# Altium integrated library Analog Devices Switches and Multiplexers Multiplexers (Muxes).IntLib: 481 symbols (part 6 of 23)
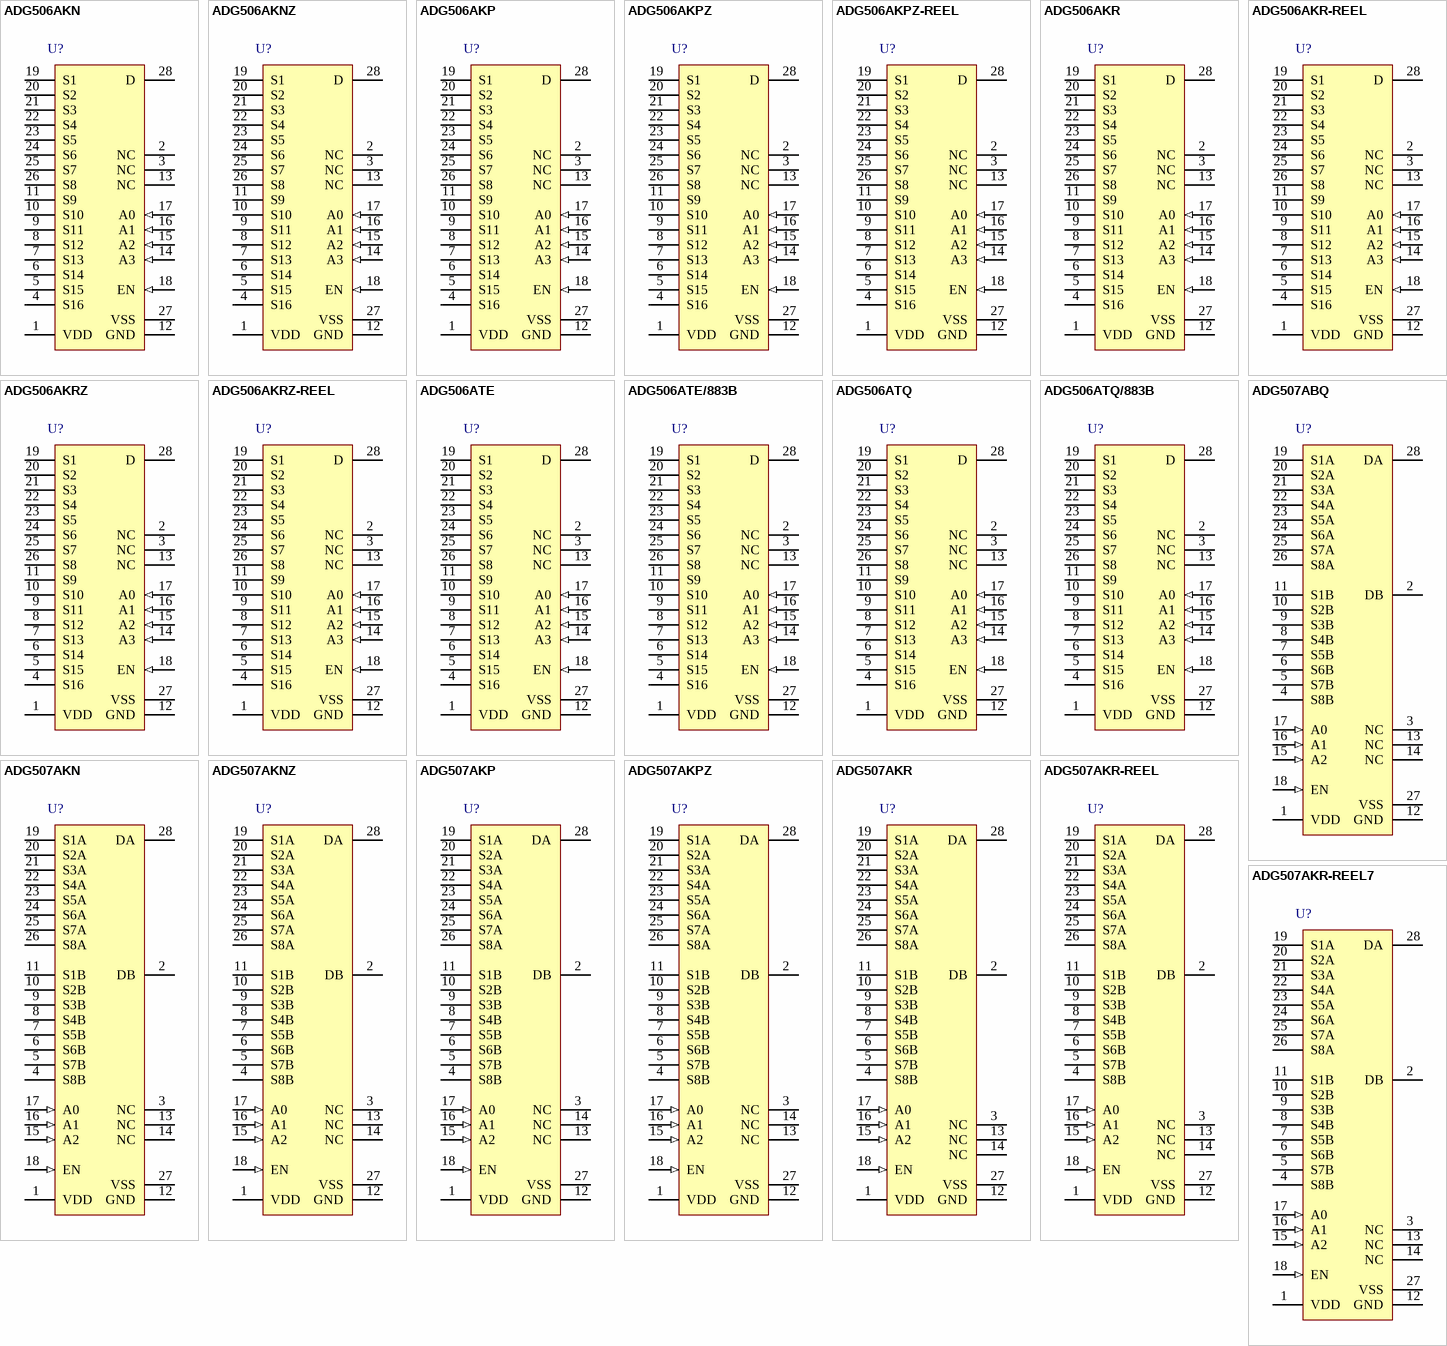
[diagram p22: symbols ADG506AKN to ADG507AKR-REEL7]

## ADG506AKRZ-REEL
designator U?
CMOS 16-Channel Analog Multiplexer, 280 Ohm / 500 Ohm Ron, 28-pin SOIC (RW-28), Reel; Manufacturer: Analog Devices; PartNumber: ADG506AKRZ-REEL; Max Analog Signal Range: Vss to Vdd; Ron (ohms): 280; t transition (s): 200n; DatasheetVersion: Rev. C; PackageVersion: 060706-A, 06/2006; PackageReference: RW-28; PackageDescription: 28-Pin Standard Small Outline Package, Body 17.9 x 7.5 mm, Pitch 1.27 mm; Supplier 1: Digi-Key; Supplier Part Number 1: ADG506AKRZ-REELTR-ND; Supplier 2: Digi-Key; Supplier Part Number 2: ADG506AKRZ-REELCT-ND; Supplier 3: Digi-Key; Supplier Part Number 3: ADG506AKRZ-REELDKR-ND; Supplier 4: Mouser; Supplier Part Number 4: 584-ADG506AKRZ-R; Packing: Reel; Mounting Technology: Surface Mount; Code_JEDEC: MS-013-AE; ComponentLink1Description: Manufacturer URL; ComponentLink1URL: http://www.analog.com/en/index.html; ComponentLink2Description: Datasheet; ComponentLink2URL: http://www.analog.com/static/imported-files/data_sheets/ADG506A_507A.pdf; ComponentLink3Description: Package Specification; ComponentLink3URL: http://www.analog.com/static/imported-files/packages/35833120341221RW_28.pdf
footprint ADI-RW-28_N (SOIC, 28-Leads, Body 17.9x7.5mm, Pitch 1.27mm, IPC Medium Density)
footprint ADI-RW-28_L (SOIC, 28-Leads, Body 17.9x7.5mm, Pitch 1.27mm, IPC High Density)
footprint ADI-RW-28_M (SOIC, 28-Leads, Body 17.9x7.5mm, Pitch 1.27mm, IPC Low Density)
pins: 1 VDD (power), 2 NC, 3 NC, 4 S16, 5 S15, 6 S14, 7 S13, 8 S12, 9 S11, 10 S10, 11 S9, 12 GND (power), 13 NC, 14 A3 (in), 15 A2 (in), 16 A1 (in), 17 A0 (in), 18 EN (in), 19 S1, 20 S2, 21 S3, 22 S4, 23 S5, 24 S6, 25 S7, 26 S8, 27 VSS (power), 28 D

## ADG506ATE
designator U?
CMOS 16-Channel Analog Multiplexer, 280 Ohm / 500 Ohm Ron, 28-pin LCC (E-28-1), Tube; Manufacturer: Analog Devices; PartNumber: ADG506ATE; Max Analog Signal Range: Vss to Vdd; Ron (ohms): 280; t transition (s): 200n; DatasheetVersion: Rev. C; PackageVersion: 022106-A, 02/2006; PackageReference: E-28-1; PackageDescription: 28-Terminal Ceramic Leadless Chip Carrier, Body 11.43 x 11.43 mm, Pitch 1.27 mm; Supplier 1: Mouser; Supplier Part Number 1: N/A; Packing: Tube; Mounting Technology: Surface Mount; ComponentLink1Description: Manufacturer URL; ComponentLink1URL: http://www.analog.com/en/index.html; ComponentLink2Description: Datasheet; ComponentLink2URL: http://www.analog.com/static/imported-files/data_sheets/ADG506A_507A.pdf; ComponentLink3Description: Package Specification; ComponentLink3URL: http://www.analog.com/static/imported-files/packages/PKG_PDF/LCC(E)/E_28_1.pdf
footprint ADI-E-28-1_N (LCC, 28-Leads, Body 11.43x11.43mm, Pitch 1.27mm, IPC Medium Density)
footprint ADI-E-28-1_L (LCC, 28-Leads, Body 11.43x11.43mm, Pitch 1.27mm, IPC High Density)
footprint ADI-E-28-1_M (LCC, 28-Leads, Body 11.43x11.43mm, Pitch 1.27mm, IPC Low Density)
pins: 1 VDD (power), 2 NC, 3 NC, 4 S16, 5 S15, 6 S14, 7 S13, 8 S12, 9 S11, 10 S10, 11 S9, 12 GND (power), 13 NC, 14 A3 (in), 15 A2 (in), 16 A1 (in), 17 A0 (in), 18 EN (in), 19 S1, 20 S2, 21 S3, 22 S4, 23 S5, 24 S6, 25 S7, 26 S8, 27 VSS (power), 28 D

## ADG506ATE/883B
designator U?
CMOS 16-Channel Analog Multiplexer, 280 Ohm / 500 Ohm Ron, 28-pin LCC (E-28-1), Tube; Manufacturer: Analog Devices; PartNumber: ADG506ATE/883B; Max Analog Signal Range: Vss to Vdd; Ron (ohms): 280; t transition (s): 200n; DatasheetVersion: Rev. C; PackageVersion: 022106-A, 02/2006; PackageReference: E-28-1; PackageDescription: 28-Terminal Ceramic Leadless Chip Carrier, Body 11.43 x 11.43 mm, Pitch 1.27 mm; Supplier 1: Mouser; Supplier Part Number 1: 584-ADG506ATE883B; Packing: Tube; Mounting Technology: Surface Mount; ComponentLink1Description: Manufacturer URL; ComponentLink1URL: http://www.analog.com/en/index.html; ComponentLink2Description: Datasheet; ComponentLink2URL: http://www.analog.com/static/imported-files/data_sheets/ADG506A_507A.pdf; ComponentLink3Description: Package Specification; ComponentLink3URL: http://www.analog.com/static/imported-files/packages/PKG_PDF/LCC(E)/E_28_1.pdf
footprint ADI-E-28-1_N (LCC, 28-Leads, Body 11.43x11.43mm, Pitch 1.27mm, IPC Medium Density)
footprint ADI-E-28-1_L (LCC, 28-Leads, Body 11.43x11.43mm, Pitch 1.27mm, IPC High Density)
footprint ADI-E-28-1_M (LCC, 28-Leads, Body 11.43x11.43mm, Pitch 1.27mm, IPC Low Density)
pins: 1 VDD (power), 2 NC, 3 NC, 4 S16, 5 S15, 6 S14, 7 S13, 8 S12, 9 S11, 10 S10, 11 S9, 12 GND (power), 13 NC, 14 A3 (in), 15 A2 (in), 16 A1 (in), 17 A0 (in), 18 EN (in), 19 S1, 20 S2, 21 S3, 22 S4, 23 S5, 24 S6, 25 S7, 26 S8, 27 VSS (power), 28 D

## ADG506ATQ
designator U?
CMOS 16-Channel Analog Multiplexer, 280 Ohm / 500 Ohm Ron, 28-pin DIP (Q-28-2), Tube; Manufacturer: Analog Devices; PartNumber: ADG506ATQ; Max Analog Signal Range: Vss to Vdd; Ron (ohms): 280; t transition (s): 200n; DatasheetVersion: Rev. C; PackageVersion: 030106-A, 03/2006; PackageReference: Q-28-2; PackageDescription: 28-Pin Ceramic Dual In-Line Package, Row spacing 15.24 mm, Pitch 2.54 mm; Supplier 1: Digi-Key; Supplier Part Number 1: ADG506ATQ-ND; Supplier 2: Newark; Supplier Part Number 2: 05F6211; Supplier 3: Mouser; Supplier Part Number 3: 584-ADG506ATQ; Packing: Tube; Mounting Technology: Through Hole; ComponentLink1Description: Manufacturer URL; ComponentLink1URL: http://www.analog.com/en/index.html; ComponentLink2Description: Datasheet; ComponentLink2URL: http://www.analog.com/static/imported-files/data_sheets/ADG506A_507A.pdf; ComponentLink3Description: Package Specification; ComponentLink3URL: http://www.analog.com/static/imported-files/packages/4045339666127361303Q_28_2.pdf
footprint ADI-Q-28-2 (DIP, 28-Leads, Body 37.85x14.1mm, Pitch 2.54mm)
pins: 1 VDD (power), 2 NC "NO CONNECT", 3 NC "NO CONNECT", 4 S16, 5 S15, 6 S14, 7 S13, 8 S12, 9 S11, 10 S10, 11 S9, 12 GND (power), 13 NC "NO CONNECT", 14 A3 (in), 15 A2 (in), 16 A1 (in), 17 A0 (in), 18 EN (in), 19 S1, 20 S2, 21 S3, 22 S4, 23 S5, 24 S6, 25 S7, 26 S8, 27 VSS (power), 28 D

## ADG506ATQ/883B
designator U?
CMOS 16-Channel Analog Multiplexer, 280 Ohm / 500 Ohm Ron, 28-pin DIP (Q-28-2), Tube; Manufacturer: Analog Devices; PartNumber: ADG506ATQ/883B; Max Analog Signal Range: Vss to Vdd; Ron (ohms): 280; t transition (s): 200n; DatasheetVersion: Rev. C; PackageVersion: 030106-A, 03/2006; PackageReference: Q-28-2; PackageDescription: 28-Pin Ceramic Dual In-Line Package, Row spacing 15.24 mm, Pitch 2.54 mm; Supplier 1: Mouser; Supplier Part Number 1: 584-ADG506ATQ883B; Packing: Tube; Mounting Technology: Through Hole; ComponentLink1Description: Manufacturer URL; ComponentLink1URL: http://www.analog.com/en/index.html; ComponentLink2Description: Datasheet; ComponentLink2URL: http://www.analog.com/static/imported-files/data_sheets/ADG506A_507A.pdf; ComponentLink3Description: Package Specification; ComponentLink3URL: http://www.analog.com/static/imported-files/packages/4045339666127361303Q_28_2.pdf
footprint ADI-Q-28-2 (DIP, 28-Leads, Body 37.85x14.1mm, Pitch 2.54mm)
pins: 1 VDD (power), 2 NC "NO CONNECT", 3 NC "NO CONNECT", 4 S16, 5 S15, 6 S14, 7 S13, 8 S12, 9 S11, 10 S10, 11 S9, 12 GND (power), 13 NC "NO CONNECT", 14 A3 (in), 15 A2 (in), 16 A1 (in), 17 A0 (in), 18 EN (in), 19 S1, 20 S2, 21 S3, 22 S4, 23 S5, 24 S6, 25 S7, 26 S8, 27 VSS (power), 28 D

## ADG507ABQ
designator U?
CMOS 8-Channel Analog Multiplexer, 280 Ohm / 500 Ohm Ron, 28-pin DIP (Q-28-2), Tube; Manufacturer: Analog Devices; PartNumber: ADG507ABQ; Max Analog Signal Range: Vss to Vdd; Ron (ohms): 280; t transition (s): 200n; DatasheetVersion: Rev. C; PackageVersion: 030106-A, 03/2006; PackageReference: Q-28-2; PackageDescription: 28-Pin Ceramic Dual In-Line Package, Row spacing 15.24 mm, Pitch 2.54 mm; Supplier 1: Digi-Key; Supplier Part Number 1: ADG507ABQ-ND; Packing: Tube; Mounting Technology: Through Hole; ComponentLink1Description: Manufacturer URL; ComponentLink1URL: http://www.analog.com/en/index.html; ComponentLink2Description: Datasheet; ComponentLink2URL: http://www.analog.com/static/imported-files/data_sheets/ADG506A_507A.pdf; ComponentLink3Description: Package Specification; ComponentLink3URL: http://www.analog.com/static/imported-files/packages/4045339666127361303Q_28_2.pdf
footprint ADI-Q-28-2 (DIP, 28-Leads, Body 37.85x14.1mm, Pitch 2.54mm)
pins: 1 VDD (power) "Most positive voltage supply", 2 DB, 3 NC "No Connected", 4 S8B, 5 S7B, 6 S6B, 7 S5B, 8 S4B, 9 S3B, 10 S2B, 11 S1B, 12 GND (power), 13 NC "No Connected", 14 NC "No Connected", 15 A2 (in), 16 A1 (in), 17 A0 (in), 18 EN (in), 19 S1A, 20 S2A, 21 S3A, 22 S4A, 23 S5A, 24 S6A, 25 S7A, 26 S8A, 27 VSS (power) "Most negative voltage supply", 28 DA

## ADG507AKN
designator U?
CMOS 8-Channel Analog Multiplexer, 280 Ohm / 500 Ohm Ron, 28-pin DIP (N-28-2), Tube; Manufacturer: Analog Devices; PartNumber: ADG507AKN; Max Analog Signal Range: Vss to Vdd; Ron (ohms): 280; t transition (s): 200n; DatasheetVersion: Rev. C; PackageVersion: 071006-A, 07/2006; PackageReference: N-28-2; PackageDescription: 28-Pin Plastic Dual In-Line Package, Row spacing 15.24 mm, Pitch 2.54 mm; Supplier 1: Digi-Key; Supplier Part Number 1: ADG507AKN-ND; Packing: Tube; Mounting Technology: Through Hole; Code_JEDEC: MS-011; ComponentLink1Description: Manufacturer URL; ComponentLink1URL: http://www.analog.com/en/index.html; ComponentLink2Description: Datasheet; ComponentLink2URL: http://www.analog.com/static/imported-files/data_sheets/ADG506A_507A.pdf; ComponentLink3Description: Package Specification; ComponentLink3URL: http://www.analog.com/static/imported-files/packages/50849324123784N_28_2.pdf
footprint ADI-N-28-2 (DIP, 28-Leads, Body 37.4x13.52mm, Pitch 2.54mm)
pins: 1 VDD (power) "Most positive voltage supply", 2 DB, 3 NC "No connect", 4 S8B, 5 S7B, 6 S6B, 7 S5B, 8 S4B, 9 S3B, 10 S2B, 11 S1B, 12 GND (power), 13 NC "No connect", 14 NC "No connect", 15 A2 (in), 16 A1 (in), 17 A0 (in), 18 EN (in), 19 S1A, 20 S2A, 21 S3A, 22 S4A, 23 S5A, 24 S6A, 25 S7A, 26 S8A, 27 VSS (power) "Most negative voltage supply", 28 DA

## ADG507AKNZ
designator U?
CMOS 8-Channel Analog Multiplexer, 280 Ohm Ron, 28-pin DIP (N-28-2), Tube; Manufacturer: Analog Devices; PartNumber: ADG507AKNZ; Max Analog Signal Range: Vss to Vdd; Ron (ohms): 280; t transition (s): 200n; DatasheetVersion: Rev. C; PackageVersion: 071006-A, 07/2006; PackageReference: N-28-2; PackageDescription: 28-Pin Plastic Dual In-Line Package, Row spacing 15.24 mm, Pitch 2.54 mm; Supplier 1: Digi-Key; Supplier Part Number 1: ADG507AKNZ-ND; Supplier 2: Farnell; Supplier Part Number 2: 9604960; Supplier 3: Newark; Supplier Part Number 3: 59K1355; Supplier 4: Mouser; Supplier Part Number 4: 584-ADG507AKNZ; Packing: Tube; Mounting Technology: Through Hole; Code_JEDEC: MS-011; ComponentLink1Description: Manufacturer URL; ComponentLink1URL: http://www.analog.com/en/index.html; ComponentLink2Description: Datasheet; ComponentLink2URL: http://www.analog.com/static/imported-files/data_sheets/ADG506A_507A.pdf; ComponentLink3Description: Package Specification; ComponentLink3URL: http://www.analog.com/static/imported-files/packages/50849324123784N_28_2.pdf
footprint ADI-N-28-2 (DIP, 28-Leads, Body 37.4x13.52mm, Pitch 2.54mm)
pins: 1 VDD (power) "Most positive voltage supply", 2 DB, 3 NC "No connect", 4 S8B, 5 S7B, 6 S6B, 7 S5B, 8 S4B, 9 S3B, 10 S2B, 11 S1B, 12 GND (power), 13 NC "No connect", 14 NC "No connect", 15 A2 (in), 16 A1 (in), 17 A0 (in), 18 EN (in), 19 S1A, 20 S2A, 21 S3A, 22 S4A, 23 S5A, 24 S6A, 25 S7A, 26 S8A, 27 VSS (power) "Most negative voltage supply", 28 DA

## ADG507AKP
designator U?
CMOS 8-Channel Analog Multiplexer, 280 Ohm Ron, 28-pin PLCC (P-28), Tube; Manufacturer: Analog Devices; PartNumber: ADG507AKP; Max Analog Signal Range: Vss to Vdd; Ron (ohms): 280; t transition (s): 200n; DatasheetVersion: Rev. C; PackageVersion: 042508-A, 04/2008; PackageReference: P-28; PackageDescription: 28-Pin Plastic Leaded Chip Carrier, Body 11.51 x 11.51 mm, Pitch 1.27 mm; Supplier 1: Digi-Key; Supplier Part Number 1: ADG507AKP-ND; Supplier 2: Mouser; Supplier Part Number 2: 584-ADG507AKP; Packing: Tube; Mounting Technology: Surface Mount; Code_JEDEC: MO-047-AB; ComponentLink1Description: Manufacturer URL; ComponentLink1URL: http://www.analog.com/en/index.html; ComponentLink2Description: Datasheet; ComponentLink2URL: http://www.analog.com/static/imported-files/data_sheets/ADG506A_507A.pdf; ComponentLink3Description: Package Specification; ComponentLink3URL: http://www.analog.com/static/imported-files/packages/PKG_PDF/PLCC(P)/P_28.pdf
footprint ADI-P-28_N (PLCC, 28-Leads, Body 11.51x11.51mm, Pitch 1.27mm, IPC Medium Density)
footprint ADI-P-28_L (PLCC, 28-Leads, Body 11.51x11.51mm, Pitch 1.27mm, IPC High Density)
footprint ADI-P-28_M (PLCC, 28-Leads, Body 11.51x11.51mm, Pitch 1.27mm, IPC Low Density)
pins: 1 VDD (power), 2 DB, 3 NC, 4 S8B, 5 S7B, 6 S6B, 7 S5B, 8 S4B, 9 S3B, 10 S2B, 11 S1B, 12 GND (power), 13 NC, 14 NC, 15 A2 (in), 16 A1 (in), 17 A0 (in), 18 EN (in), 19 S1A, 20 S2A, 21 S3A, 22 S4A, 23 S5A, 24 S6A, 25 S7A, 26 S8A, 27 VSS (power), 28 DA

## ADG507AKPZ
designator U?
CMOS 8-Channel Analog Multiplexer, 280 Ohm Ron, 28-pin PLCC (P-28), Tube; Manufacturer: Analog Devices; PartNumber: ADG507AKPZ; Max Analog Signal Range: Vss to Vdd; Ron (ohms): 280; t transition (s): 200n; DatasheetVersion: Rev. C; PackageVersion: 042508-A, 04/2008; PackageReference: P-28; PackageDescription: 28-Pin Plastic Leaded Chip Carrier, Body 11.51 x 11.51 mm, Pitch 1.27 mm; Supplier 1: Digi-Key; Supplier Part Number 1: ADG507AKPZ-ND; Supplier 2: Farnell; Supplier Part Number 2: 1438747; Supplier 3: Newark; Supplier Part Number 3: 59K1356; Supplier 4: Mouser; Supplier Part Number 4: 584-ADG507AKPZ; Packing: Tube; Mounting Technology: Surface Mount; Code_JEDEC: MO-047-AB; ComponentLink1Description: Manufacturer URL; ComponentLink1URL: http://www.analog.com/en/index.html; ComponentLink2Description: Datasheet; ComponentLink2URL: http://www.analog.com/static/imported-files/data_sheets/ADG506A_507A.pdf; ComponentLink3Description: Package Specification; ComponentLink3URL: http://www.analog.com/static/imported-files/packages/PKG_PDF/PLCC(P)/P_28.pdf
footprint ADI-P-28_N (PLCC, 28-Leads, Body 11.51x11.51mm, Pitch 1.27mm, IPC Medium Density)
footprint ADI-P-28_L (PLCC, 28-Leads, Body 11.51x11.51mm, Pitch 1.27mm, IPC High Density)
footprint ADI-P-28_M (PLCC, 28-Leads, Body 11.51x11.51mm, Pitch 1.27mm, IPC Low Density)
pins: 1 VDD (power), 2 DB, 3 NC, 4 S8B, 5 S7B, 6 S6B, 7 S5B, 8 S4B, 9 S3B, 10 S2B, 11 S1B, 12 GND (power), 13 NC, 14 NC, 15 A2 (in), 16 A1 (in), 17 A0 (in), 18 EN (in), 19 S1A, 20 S2A, 21 S3A, 22 S4A, 23 S5A, 24 S6A, 25 S7A, 26 S8A, 27 VSS (power), 28 DA

## ADG507AKR
designator U?
CMOS 8-Channel Analog Multiplexer, 280 Ohm Ron, 28-pin SOIC (RW-28), Tube; Manufacturer: Analog Devices; PartNumber: ADG507AKR; Max Analog Signal Range: Vss to Vdd; Ron (ohms): 280; t transition (s): 200n; DatasheetVersion: Rev. C; PackageVersion: 060706-A, 06/2006; PackageReference: RW-28; PackageDescription: 28-Pin Standard Small Outline Package, Body 17.9 x 7.5 mm, Pitch 1.27 mm; Supplier 1: Digi-Key; Supplier Part Number 1: ADG507AKR-ND; Supplier 2: Mouser; Supplier Part Number 2: 584-ADG507AKR; Packing: Tube; Mounting Technology: Surface Mount; Code_JEDEC: MS-013-AE; ComponentLink1Description: Manufacturer URL; ComponentLink1URL: http://www.analog.com/en/index.html; ComponentLink2Description: Datasheet; ComponentLink2URL: http://www.analog.com/static/imported-files/data_sheets/ADG506A_507A.pdf; ComponentLink3Description: Package Specification; ComponentLink3URL: http://www.analog.com/static/imported-files/packages/35833120341221RW_28.pdf
footprint ADI-RW-28_N (SOIC, 28-Leads, Body 17.9x7.5mm, Pitch 1.27mm, IPC Medium Density)
footprint ADI-RW-28_L (SOIC, 28-Leads, Body 17.9x7.5mm, Pitch 1.27mm, IPC High Density)
footprint ADI-RW-28_M (SOIC, 28-Leads, Body 17.9x7.5mm, Pitch 1.27mm, IPC Low Density)
pins: 1 VDD (power), 2 DB, 3 NC, 4 S8B, 5 S7B, 6 S6B, 7 S5B, 8 S4B, 9 S3B, 10 S2B, 11 S1B, 12 GND (power), 13 NC, 14 NC, 15 A2 (in), 16 A1 (in), 17 A0 (in), 18 EN (in), 19 S1A, 20 S2A, 21 S3A, 22 S4A, 23 S5A, 24 S6A, 25 S7A, 26 S8A, 27 VSS (power), 28 DA

## ADG507AKR-REEL
designator U?
CMOS 8-Channel Analog Multiplexer, 280 Ohm Ron, 28-pin SOIC (RW-28), Reel; Manufacturer: Analog Devices; PartNumber: ADG507AKR-REEL; Max Analog Signal Range: Vss to Vdd; Ron (ohms): 280; t transition (s): 200n; DatasheetVersion: Rev. C; PackageVersion: 060706-A, 06/2006; PackageReference: RW-28; PackageDescription: 28-Pin Standard Small Outline Package, Body 17.9 x 7.5 mm, Pitch 1.27 mm; Packing: Reel; Mounting Technology: Surface Mount; Code_JEDEC: MS-013-AE; ComponentLink1Description: Manufacturer URL; ComponentLink1URL: http://www.analog.com/en/index.html; ComponentLink2Description: Datasheet; ComponentLink2URL: http://www.analog.com/static/imported-files/data_sheets/ADG506A_507A.pdf; ComponentLink3Description: Package Specification; ComponentLink3URL: http://www.analog.com/static/imported-files/packages/35833120341221RW_28.pdf
footprint ADI-RW-28_N (SOIC, 28-Leads, Body 17.9x7.5mm, Pitch 1.27mm, IPC Medium Density)
footprint ADI-RW-28_L (SOIC, 28-Leads, Body 17.9x7.5mm, Pitch 1.27mm, IPC High Density)
footprint ADI-RW-28_M (SOIC, 28-Leads, Body 17.9x7.5mm, Pitch 1.27mm, IPC Low Density)
pins: 1 VDD (power), 2 DB, 3 NC, 4 S8B, 5 S7B, 6 S6B, 7 S5B, 8 S4B, 9 S3B, 10 S2B, 11 S1B, 12 GND (power), 13 NC, 14 NC, 15 A2 (in), 16 A1 (in), 17 A0 (in), 18 EN (in), 19 S1A, 20 S2A, 21 S3A, 22 S4A, 23 S5A, 24 S6A, 25 S7A, 26 S8A, 27 VSS (power), 28 DA

## ADG507AKR-REEL7
designator U?
CMOS 8-Channel Analog Multiplexer, 280 Ohm Ron, 28-pin SOIC (RW-28), Reel; Manufacturer: Analog Devices; PartNumber: ADG507AKR-REEL7; Max Analog Signal Range: Vss to Vdd; Ron (ohms): 280; t transition (s): 200n; DatasheetVersion: Rev. C; PackageVersion: 060706-A, 06/2006; PackageReference: RW-28; PackageDescription: 28-Pin Standard Small Outline Package, Body 17.9 x 7.5 mm, Pitch 1.27 mm; Supplier 1: Digi-Key; Supplier Part Number 1: ADG507AKR-REEL7-ND; Supplier 2: Newark; Supplier Part Number 2: 09B7089; Supplier 3: Mouser; Supplier Part Number 3: 584-ADG507AKR-R7; Packing: Reel; Mounting Technology: Surface Mount; Code_JEDEC: MS-013-AE; ComponentLink1Description: Manufacturer URL; ComponentLink1URL: http://www.analog.com/en/index.html; ComponentLink2Description: Datasheet; ComponentLink2URL: http://www.analog.com/static/imported-files/data_sheets/ADG506A_507A.pdf; ComponentLink3Description: Package Specification; ComponentLink3URL: http://www.analog.com/static/imported-files/packages/35833120341221RW_28.pdf
footprint ADI-RW-28_N (SOIC, 28-Leads, Body 17.9x7.5mm, Pitch 1.27mm, IPC Medium Density)
footprint ADI-RW-28_L (SOIC, 28-Leads, Body 17.9x7.5mm, Pitch 1.27mm, IPC High Density)
footprint ADI-RW-28_M (SOIC, 28-Leads, Body 17.9x7.5mm, Pitch 1.27mm, IPC Low Density)
pins: 1 VDD (power), 2 DB, 3 NC, 4 S8B, 5 S7B, 6 S6B, 7 S5B, 8 S4B, 9 S3B, 10 S2B, 11 S1B, 12 GND (power), 13 NC, 14 NC, 15 A2 (in), 16 A1 (in), 17 A0 (in), 18 EN (in), 19 S1A, 20 S2A, 21 S3A, 22 S4A, 23 S5A, 24 S6A, 25 S7A, 26 S8A, 27 VSS (power), 28 DA

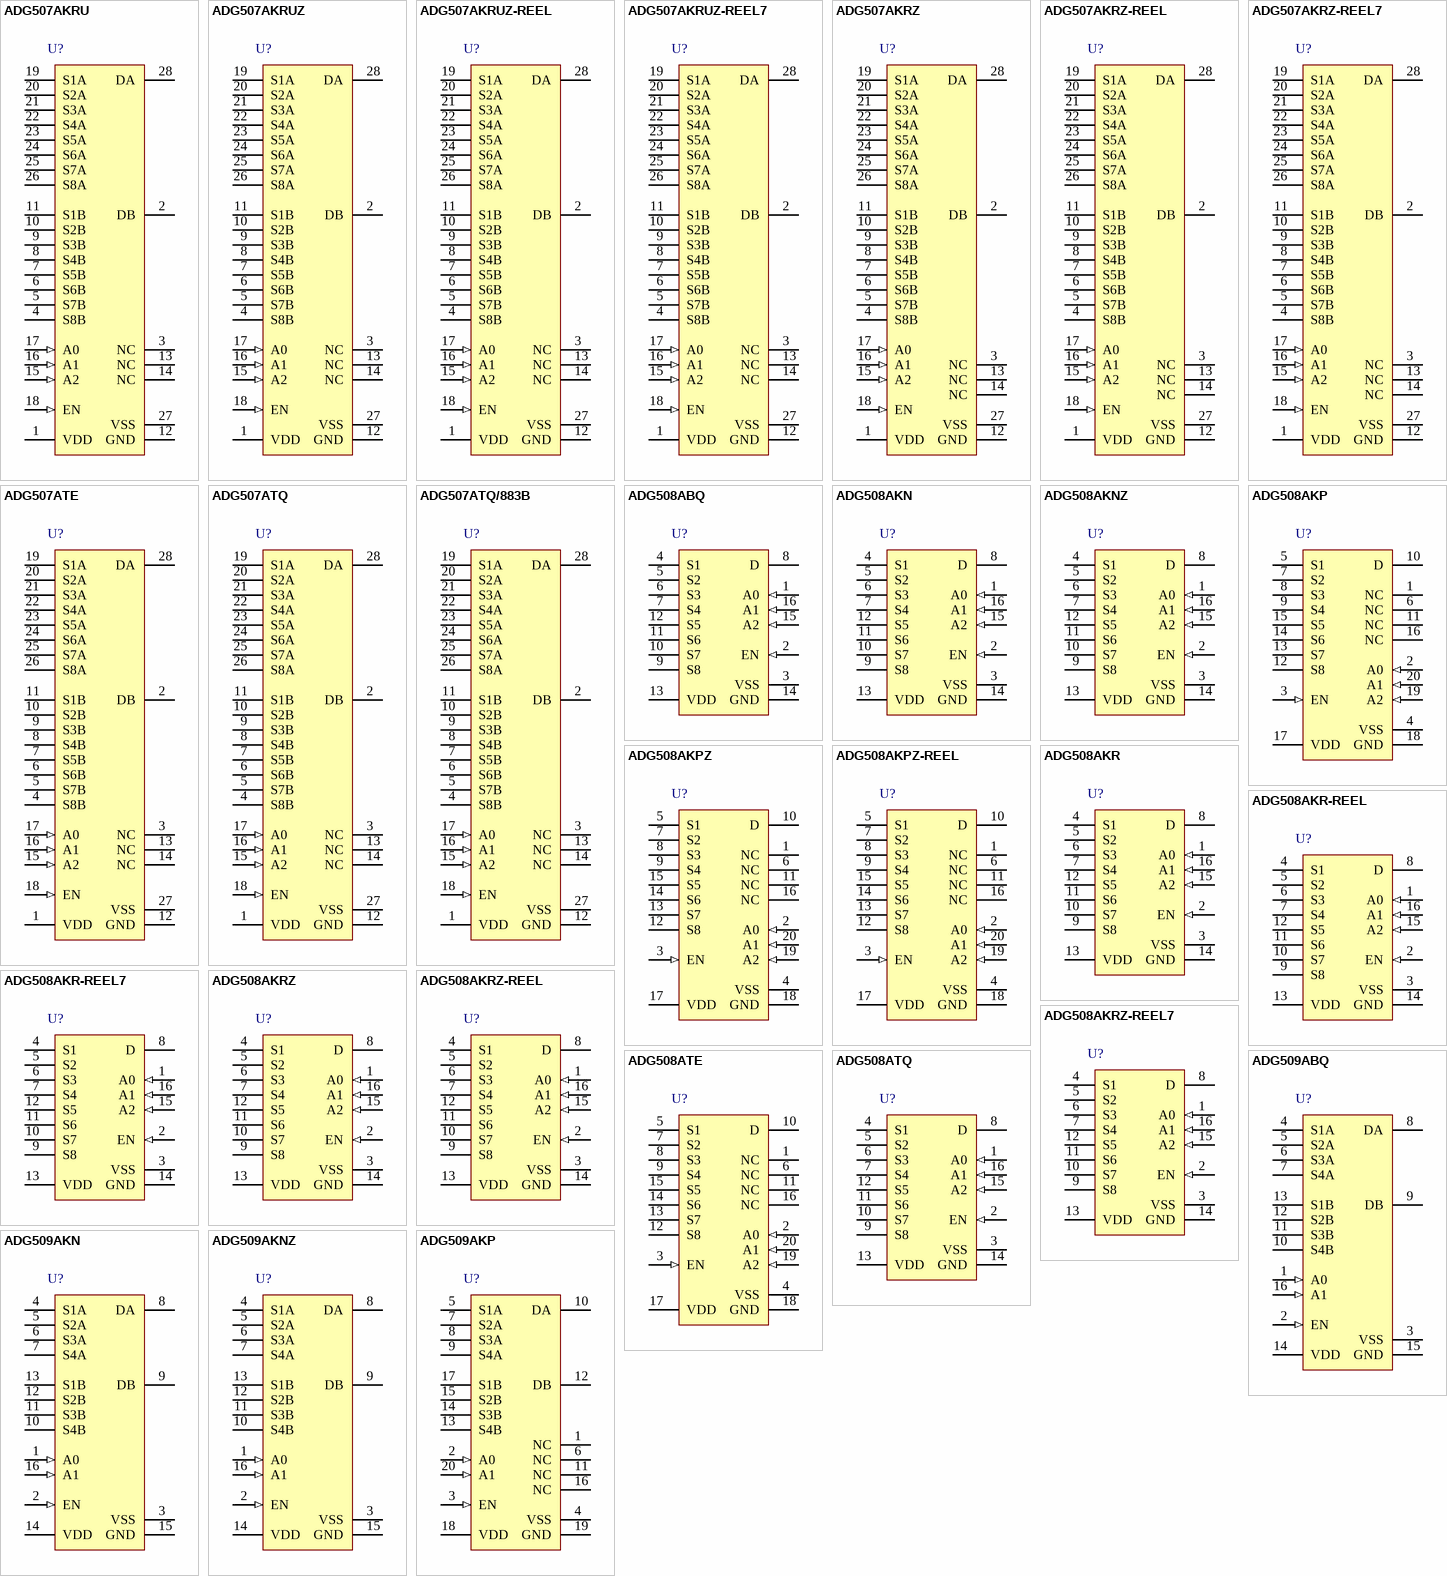
[diagram p5: symbols ADG507AKRU to ADG509AKP]

## ADG507AKRU
designator U?
CMOS 8-Channel Analog Multiplexer, 280 Ohm Ron, 28-pin SOP (RU-28), Tube; Manufacturer: Analog Devices; PartNumber: ADG507AKRU; Max Analog Signal Range: Vss to Vdd; Ron (ohms): 280; t transition (s): 200n; DatasheetVersion: Rev. C; PackageVersion: Mar-05; PackageReference: RU-28; PackageDescription: 28-Pin Thin Shrink Small Outline Package, Body 9.7 x 4.4 mm, Pitch 0.65 mm; Supplier 1: Digi-Key; Supplier Part Number 1: ADG507AKRU-ND; Supplier 2: Mouser; Supplier Part Number 2: 584-ADG507AKRU; Packing: Tube; Mounting Technology: Surface Mount; Code_JEDEC: MO-153-AE; ComponentLink1Description: Manufacturer URL; ComponentLink1URL: http://www.analog.com/en/index.html; ComponentLink2Description: Datasheet; ComponentLink2URL: http://www.analog.com/static/imported-files/data_sheets/ADG506A_507A.pdf; ComponentLink3Description: Package Specification; ComponentLink3URL: http://www.analog.com/static/imported-files/packages/249854663RU_28.pdf
footprint ADI-RU-28_N (SOP, 28-Leads, Body 9.7x4.4mm, Pitch 0.65mm, IPC Medium Density)
footprint ADI-RU-28_L (SOP, 28-Leads, Body 9.7x4.4mm, Pitch 0.65mm, IPC High Density)
footprint ADI-RU-28_M (SOP, 28-Leads, Body 9.7x4.4mm, Pitch 0.65mm, IPC Low Density)
pins: 1 VDD (power) "Most Positive Power Supply Potential", 2 DB, 3 NC "No connect", 4 S8B, 5 S7B, 6 S6B, 7 S5B, 8 S4B, 9 S3B, 10 S2B, 11 S1B, 12 GND (power), 13 NC "No connect", 14 NC "No connect", 15 A2 (in), 16 A1 (in), 17 A0 (in), 18 EN (in), 19 S1A, 20 S2A, 21 S3A, 22 S4A, 23 S5A, 24 S6A, 25 S7A, 26 S8A, 27 VSS (power) "Most Negative Power Supply in a Dual-Supply Application. In single-supply applications, connect to GND.", 28 DA

## ADG507AKRUZ
designator U?
CMOS 8-Channel Analog Multiplexer, 280 Ohm Ron, 28-pin SOP (RU-28), Tube; Manufacturer: Analog Devices; PartNumber: ADG507AKRUZ; Max Analog Signal Range: Vss to Vdd; Ron (ohms): 280; t transition (s): 200n; DatasheetVersion: Rev. C; PackageVersion: Mar-05; PackageReference: RU-28; PackageDescription: 28-Pin Thin Shrink Small Outline Package, Body 9.7 x 4.4 mm, Pitch 0.65 mm; Supplier 1: Digi-Key; Supplier Part Number 1: ADG507AKRUZ-ND; Supplier 2: Newark; Supplier Part Number 2: 59K1357; Supplier 3: Mouser; Supplier Part Number 3: 584-ADG507AKRUZ; Packing: Tube; Mounting Technology: Surface Mount; Code_JEDEC: MO-153-AE; ComponentLink1Description: Manufacturer URL; ComponentLink1URL: http://www.analog.com/en/index.html; ComponentLink2Description: Datasheet; ComponentLink2URL: http://www.analog.com/static/imported-files/data_sheets/ADG506A_507A.pdf; ComponentLink3Description: Package Specification; ComponentLink3URL: http://www.analog.com/static/imported-files/packages/249854663RU_28.pdf
footprint ADI-RU-28_N (SOP, 28-Leads, Body 9.7x4.4mm, Pitch 0.65mm, IPC Medium Density)
footprint ADI-RU-28_L (SOP, 28-Leads, Body 9.7x4.4mm, Pitch 0.65mm, IPC High Density)
footprint ADI-RU-28_M (SOP, 28-Leads, Body 9.7x4.4mm, Pitch 0.65mm, IPC Low Density)
pins: 1 VDD (power) "Most Positive Power Supply Potential", 2 DB, 3 NC "No connect", 4 S8B, 5 S7B, 6 S6B, 7 S5B, 8 S4B, 9 S3B, 10 S2B, 11 S1B, 12 GND (power), 13 NC "No connect", 14 NC "No connect", 15 A2 (in), 16 A1 (in), 17 A0 (in), 18 EN (in), 19 S1A, 20 S2A, 21 S3A, 22 S4A, 23 S5A, 24 S6A, 25 S7A, 26 S8A, 27 VSS (power) "Most Negative Power Supply in a Dual-Supply Application. In single-supply applications, connect to GND.", 28 DA

## ADG507AKRUZ-REEL
designator U?
CMOS 8-Channel Analog Multiplexer, 280 Ohm Ron, 28-pin SOP (RU-28), Reel; Manufacturer: Analog Devices; PartNumber: ADG507AKRUZ-REEL; Max Analog Signal Range: Vss to Vdd; Ron (ohms): 280; t transition (s): 200n; DatasheetVersion: Rev. C; PackageVersion: Mar-05; PackageReference: RU-28; PackageDescription: 28-Pin Thin Shrink Small Outline Package, Body 9.7 x 4.4 mm, Pitch 0.65 mm; Supplier 1: Mouser; Supplier Part Number 1: N/A; Packing: Reel; Mounting Technology: Surface Mount; Code_JEDEC: MO-153-AE; ComponentLink1Description: Manufacturer URL; ComponentLink1URL: http://www.analog.com/en/index.html; ComponentLink2Description: Datasheet; ComponentLink2URL: http://www.analog.com/static/imported-files/data_sheets/ADG506A_507A.pdf; ComponentLink3Description: Package Specification; ComponentLink3URL: http://www.analog.com/static/imported-files/packages/249854663RU_28.pdf
footprint ADI-RU-28_N (SOP, 28-Leads, Body 9.7x4.4mm, Pitch 0.65mm, IPC Medium Density)
footprint ADI-RU-28_L (SOP, 28-Leads, Body 9.7x4.4mm, Pitch 0.65mm, IPC High Density)
footprint ADI-RU-28_M (SOP, 28-Leads, Body 9.7x4.4mm, Pitch 0.65mm, IPC Low Density)
pins: 1 VDD (power) "Most Positive Power Supply Potential", 2 DB, 3 NC "No connect", 4 S8B, 5 S7B, 6 S6B, 7 S5B, 8 S4B, 9 S3B, 10 S2B, 11 S1B, 12 GND (power), 13 NC "No connect", 14 NC "No connect", 15 A2 (in), 16 A1 (in), 17 A0 (in), 18 EN (in), 19 S1A, 20 S2A, 21 S3A, 22 S4A, 23 S5A, 24 S6A, 25 S7A, 26 S8A, 27 VSS (power) "Most Negative Power Supply in a Dual-Supply Application. In single-supply applications, connect to GND.", 28 DA

## ADG507AKRUZ-REEL7
designator U?
CMOS 8-Channel Analog Multiplexer, 280 Ohm Ron, 28-pin SOP (RU-28), Reel; Manufacturer: Analog Devices; PartNumber: ADG507AKRUZ-REEL7; Max Analog Signal Range: Vss to Vdd; Ron (ohms): 280; t transition (s): 200n; DatasheetVersion: Rev. C; PackageVersion: Mar-05; PackageReference: RU-28; PackageDescription: 28-Pin Thin Shrink Small Outline Package, Body 9.7 x 4.4 mm, Pitch 0.65 mm; Supplier 1: Mouser; Supplier Part Number 1: N/A; Packing: Reel; Mounting Technology: Surface Mount; Code_JEDEC: MO-153-AE; ComponentLink1Description: Manufacturer URL; ComponentLink1URL: http://www.analog.com/en/index.html; ComponentLink2Description: Datasheet; ComponentLink2URL: http://www.analog.com/static/imported-files/data_sheets/ADG506A_507A.pdf; ComponentLink3Description: Package Specification; ComponentLink3URL: http://www.analog.com/static/imported-files/packages/249854663RU_28.pdf
footprint ADI-RU-28_N (SOP, 28-Leads, Body 9.7x4.4mm, Pitch 0.65mm, IPC Medium Density)
footprint ADI-RU-28_L (SOP, 28-Leads, Body 9.7x4.4mm, Pitch 0.65mm, IPC High Density)
footprint ADI-RU-28_M (SOP, 28-Leads, Body 9.7x4.4mm, Pitch 0.65mm, IPC Low Density)
pins: 1 VDD (power) "Most Positive Power Supply Potential", 2 DB, 3 NC "No connect", 4 S8B, 5 S7B, 6 S6B, 7 S5B, 8 S4B, 9 S3B, 10 S2B, 11 S1B, 12 GND (power), 13 NC "No connect", 14 NC "No connect", 15 A2 (in), 16 A1 (in), 17 A0 (in), 18 EN (in), 19 S1A, 20 S2A, 21 S3A, 22 S4A, 23 S5A, 24 S6A, 25 S7A, 26 S8A, 27 VSS (power) "Most Negative Power Supply in a Dual-Supply Application. In single-supply applications, connect to GND.", 28 DA

## ADG507AKRZ
designator U?
CMOS 8-Channel Analog Multiplexer, 280 Ohm Ron, 28-pin SOIC (RW-28), Tube; Manufacturer: Analog Devices; PartNumber: ADG507AKRZ; Max Analog Signal Range: Vss to Vdd; Ron (ohms): 280; t transition (s): 200n; DatasheetVersion: Rev. C; PackageVersion: 060706-A, 06/2006; PackageReference: RW-28; PackageDescription: 28-Pin Standard Small Outline Package, Body 17.9 x 7.5 mm, Pitch 1.27 mm; Supplier 1: Digi-Key; Supplier Part Number 1: ADG507AKRZ-ND; Supplier 2: Farnell; Supplier Part Number 2: 1438749; Supplier 3: Newark; Supplier Part Number 3: 59K1358; Supplier 4: Mouser; Supplier Part Number 4: 584-ADG507AKRZ; Packing: Tube; Mounting Technology: Surface Mount; Code_JEDEC: MS-013-AE; ComponentLink1Description: Manufacturer URL; ComponentLink1URL: http://www.analog.com/en/index.html; ComponentLink2Description: Datasheet; ComponentLink2URL: http://www.analog.com/static/imported-files/data_sheets/ADG506A_507A.pdf; ComponentLink3Description: Package Specification; ComponentLink3URL: http://www.analog.com/static/imported-files/packages/35833120341221RW_28.pdf
footprint ADI-RW-28_N (SOIC, 28-Leads, Body 17.9x7.5mm, Pitch 1.27mm, IPC Medium Density)
footprint ADI-RW-28_L (SOIC, 28-Leads, Body 17.9x7.5mm, Pitch 1.27mm, IPC High Density)
footprint ADI-RW-28_M (SOIC, 28-Leads, Body 17.9x7.5mm, Pitch 1.27mm, IPC Low Density)
pins: 1 VDD (power), 2 DB, 3 NC, 4 S8B, 5 S7B, 6 S6B, 7 S5B, 8 S4B, 9 S3B, 10 S2B, 11 S1B, 12 GND (power), 13 NC, 14 NC, 15 A2 (in), 16 A1 (in), 17 A0 (in), 18 EN (in), 19 S1A, 20 S2A, 21 S3A, 22 S4A, 23 S5A, 24 S6A, 25 S7A, 26 S8A, 27 VSS (power), 28 DA

## ADG507AKRZ-REEL
designator U?
CMOS 8-Channel Analog Multiplexer, 280 Ohm Ron, 28-pin SOIC (RW-28), Reel; Manufacturer: Analog Devices; PartNumber: ADG507AKRZ-REEL; Max Analog Signal Range: Vss to Vdd; Ron (ohms): 280; t transition (s): 200n; DatasheetVersion: Rev. C; PackageVersion: 060706-A, 06/2006; PackageReference: RW-28; PackageDescription: 28-Pin Standard Small Outline Package, Body 17.9 x 7.5 mm, Pitch 1.27 mm; Supplier 1: Digi-Key; Supplier Part Number 1: ADG507AKRZ-REEL-ND; Supplier 2: Mouser; Supplier Part Number 2: 584-ADG507AKRZ-R; Packing: Reel; Mounting Technology: Surface Mount; Code_JEDEC: MS-013-AE; ComponentLink1Description: Manufacturer URL; ComponentLink1URL: http://www.analog.com/en/index.html; ComponentLink2Description: Datasheet; ComponentLink2URL: http://www.analog.com/static/imported-files/data_sheets/ADG506A_507A.pdf; ComponentLink3Description: Package Specification; ComponentLink3URL: http://www.analog.com/static/imported-files/packages/35833120341221RW_28.pdf
footprint ADI-RW-28_N (SOIC, 28-Leads, Body 17.9x7.5mm, Pitch 1.27mm, IPC Medium Density)
footprint ADI-RW-28_L (SOIC, 28-Leads, Body 17.9x7.5mm, Pitch 1.27mm, IPC High Density)
footprint ADI-RW-28_M (SOIC, 28-Leads, Body 17.9x7.5mm, Pitch 1.27mm, IPC Low Density)
pins: 1 VDD (power), 2 DB, 3 NC, 4 S8B, 5 S7B, 6 S6B, 7 S5B, 8 S4B, 9 S3B, 10 S2B, 11 S1B, 12 GND (power), 13 NC, 14 NC, 15 A2 (in), 16 A1 (in), 17 A0 (in), 18 EN (in), 19 S1A, 20 S2A, 21 S3A, 22 S4A, 23 S5A, 24 S6A, 25 S7A, 26 S8A, 27 VSS (power), 28 DA

## ADG507AKRZ-REEL7
designator U?
CMOS 8-Channel Analog Multiplexer, 280 Ohm Ron, 28-pin SOIC (RW-28), Reel; Manufacturer: Analog Devices; PartNumber: ADG507AKRZ-REEL7; Max Analog Signal Range: Vss to Vdd; Ron (ohms): 280; t transition (s): 200n; DatasheetVersion: Rev. C; PackageVersion: 060706-A, 06/2006; PackageReference: RW-28; PackageDescription: 28-Pin Standard Small Outline Package, Body 17.9 x 7.5 mm, Pitch 1.27 mm; Supplier 1: Digi-Key; Supplier Part Number 1: ADG507AKRZ-REEL7-ND; Supplier 2: Newark; Supplier Part Number 2: 58R3866; Supplier 3: Mouser; Supplier Part Number 3: 584-ADG507AKRZ-R7; Packing: Reel; Mounting Technology: Surface Mount; Code_JEDEC: MS-013-AE; ComponentLink1Description: Manufacturer URL; ComponentLink1URL: http://www.analog.com/en/index.html; ComponentLink2Description: Datasheet; ComponentLink2URL: http://www.analog.com/static/imported-files/data_sheets/ADG506A_507A.pdf; ComponentLink3Description: Package Specification; ComponentLink3URL: http://www.analog.com/static/imported-files/packages/35833120341221RW_28.pdf
footprint ADI-RW-28_N (SOIC, 28-Leads, Body 17.9x7.5mm, Pitch 1.27mm, IPC Medium Density)
footprint ADI-RW-28_L (SOIC, 28-Leads, Body 17.9x7.5mm, Pitch 1.27mm, IPC High Density)
footprint ADI-RW-28_M (SOIC, 28-Leads, Body 17.9x7.5mm, Pitch 1.27mm, IPC Low Density)
pins: 1 VDD (power), 2 DB, 3 NC, 4 S8B, 5 S7B, 6 S6B, 7 S5B, 8 S4B, 9 S3B, 10 S2B, 11 S1B, 12 GND (power), 13 NC, 14 NC, 15 A2 (in), 16 A1 (in), 17 A0 (in), 18 EN (in), 19 S1A, 20 S2A, 21 S3A, 22 S4A, 23 S5A, 24 S6A, 25 S7A, 26 S8A, 27 VSS (power), 28 DA

## ADG507ATE
designator U?
CMOS 8-Channel Analog Multiplexer, 280 Ohm Ron, 28-pin LCC (E-28-1), Tube; Manufacturer: Analog Devices; PartNumber: ADG507ATE; Max Analog Signal Range: Vss to Vdd; Ron (ohms): 280; t transition (s): 200n; DatasheetVersion: Rev. C; PackageVersion: 022106-A, 02/2006; PackageReference: E-28-1; PackageDescription: 28-Terminal Ceramic Leadless Chip Carrier, Body 11.43 x 11.43 mm, Pitch 1.27 mm; Supplier 1: Digi-Key; Supplier Part Number 1: ADG507ATE-ND; Packing: Tube; Mounting Technology: Surface Mount; ComponentLink1Description: Manufacturer URL; ComponentLink1URL: http://www.analog.com/en/index.html; ComponentLink2Description: Datasheet; ComponentLink2URL: http://www.analog.com/static/imported-files/data_sheets/ADG506A_507A.pdf; ComponentLink3Description: Package Specification; ComponentLink3URL: http://www.analog.com/static/imported-files/packages/PKG_PDF/LCC(E)/E_28_1.pdf
footprint ADI-E-28-1_N (LCC, 28-Leads, Body 11.43x11.43mm, Pitch 1.27mm, IPC Medium Density)
footprint ADI-E-28-1_L (LCC, 28-Leads, Body 11.43x11.43mm, Pitch 1.27mm, IPC High Density)
footprint ADI-E-28-1_M (LCC, 28-Leads, Body 11.43x11.43mm, Pitch 1.27mm, IPC Low Density)
pins: 1 VDD (power) "Most positive voltage supply", 2 DB, 3 NC "No connect", 4 S8B, 5 S7B, 6 S6B, 7 S5B, 8 S4B, 9 S3B, 10 S2B, 11 S1B, 12 GND (power), 13 NC "No connect", 14 NC "No connect", 15 A2 (in), 16 A1 (in), 17 A0 (in), 18 EN (in), 19 S1A, 20 S2A, 21 S3A, 22 S4A, 23 S5A, 24 S6A, 25 S7A, 26 S8A, 27 VSS (power) "Most negative voltage supply", 28 DA

## ADG507ATQ
designator U?
CMOS 8-Channel Analog Multiplexer, 280 Ohm Ron, 28-pin DIP (Q-28-2), Tube; Manufacturer: Analog Devices; PartNumber: ADG507ATQ; Max Analog Signal Range: Vss to Vdd; Ron (ohms): 280; t transition (s): 200n; DatasheetVersion: Rev. C; PackageVersion: 030106-A, 03/2006; PackageReference: Q-28-2; PackageDescription: 28-Pin Ceramic Dual In-Line Package, Row spacing 15.24 mm, Pitch 2.54 mm; Supplier 1: Digi-Key; Supplier Part Number 1: ADG507ATQ-ND; Supplier 2: Newark; Supplier Part Number 2: 05F6216; Packing: Tube; Mounting Technology: Through Hole; ComponentLink1Description: Manufacturer URL; ComponentLink1URL: http://www.analog.com/en/index.html; ComponentLink2Description: Datasheet; ComponentLink2URL: http://www.analog.com/static/imported-files/data_sheets/ADG506A_507A.pdf; ComponentLink3Description: Package Specification; ComponentLink3URL: http://www.analog.com/static/imported-files/packages/4045339666127361303Q_28_2.pdf
footprint ADI-Q-28-2 (DIP, 28-Leads, Body 37.85x14.1mm, Pitch 2.54mm)
pins: 1 VDD (power) "Most positive voltage supply", 2 DB, 3 NC "No Connected", 4 S8B, 5 S7B, 6 S6B, 7 S5B, 8 S4B, 9 S3B, 10 S2B, 11 S1B, 12 GND (power), 13 NC "No Connected", 14 NC "No Connected", 15 A2 (in), 16 A1 (in), 17 A0 (in), 18 EN (in), 19 S1A, 20 S2A, 21 S3A, 22 S4A, 23 S5A, 24 S6A, 25 S7A, 26 S8A, 27 VSS (power) "Most negative voltage supply", 28 DA

## ADG507ATQ/883B
designator U?
CMOS 8-Channel Analog Multiplexer, 280 Ohm Ron, 28-pin DIP (Q-28-2), Tube; Manufacturer: Analog Devices; PartNumber: ADG507ATQ/883B; Max Analog Signal Range: Vss to Vdd; Ron (ohms): 280; t transition (s): 200n; DatasheetVersion: Rev. C; PackageVersion: 030106-A, 03/2006; PackageReference: Q-28-2; PackageDescription: 28-Pin Ceramic Dual In-Line Package, Row spacing 15.24 mm, Pitch 2.54 mm; Packing: Tube; Mounting Technology: Through Hole; ComponentLink1Description: Manufacturer URL; ComponentLink1URL: http://www.analog.com/en/index.html; ComponentLink2Description: Datasheet; ComponentLink2URL: http://www.analog.com/static/imported-files/data_sheets/ADG506A_507A.pdf; ComponentLink3Description: Package Specification; ComponentLink3URL: http://www.analog.com/static/imported-files/packages/4045339666127361303Q_28_2.pdf
footprint ADI-Q-28-2 (DIP, 28-Leads, Body 37.85x14.1mm, Pitch 2.54mm)
pins: 1 VDD (power) "Most positive voltage supply", 2 DB, 3 NC "No Connected", 4 S8B, 5 S7B, 6 S6B, 7 S5B, 8 S4B, 9 S3B, 10 S2B, 11 S1B, 12 GND (power), 13 NC "No Connected", 14 NC "No Connected", 15 A2 (in), 16 A1 (in), 17 A0 (in), 18 EN (in), 19 S1A, 20 S2A, 21 S3A, 22 S4A, 23 S5A, 24 S6A, 25 S7A, 26 S8A, 27 VSS (power) "Most negative voltage supply", 28 DA

## ADG508ABQ
designator U?
CMOS 8-Channel Analog Multiplexer, 280 Ohm / 500 Ohm Ron, 16-pin DIP (Q-16), Tube; Manufacturer: Analog Devices; PartNumber: ADG508ABQ; Max Analog Signal Range: Vss to Vdd; Ron (ohms): 280; t transition (s): 200n; DatasheetVersion: Rev. D; PackageVersion: Aug-05; PackageReference: Q-16; PackageDescription: 16-Pin Ceramic Dual In-Line Package, Row spacing 7.62 mm, Pitch 2.54 mm; Supplier 1: Newark; Supplier Part Number 1: 05F6217; Supplier 2: Mouser; Supplier Part Number 2: 584-ADG508ABQ; Packing: Tube; Mounting Technology: Through Hole; ComponentLink1Description: Manufacturer URL; ComponentLink1URL: http://www.analog.com/en/index.html; ComponentLink2Description: Datasheet; ComponentLink2URL: http://www.analog.com/static/imported-files/data_sheets/ADG508A_509A.pdf; ComponentLink3Description: Package Specification; ComponentLink3URL: http://www.analog.com/static/imported-files/packages/54083157002221Q_16.pdf
footprint ADI-Q-16 (DIP, 16-Leads, Body 21.34x6.73mm, Pitch 2.54mm)
pins: 1 A0 (in) "Logic Control Input.", 2 EN (in) "Active High Digital Input. When low, the device is disabled and all switches are off.When high, Ax logic inputs determine on switches.", 3 VSS (power) "Most Negative Power Supply Potential in Dual Supplies. In single-supply applications,it can be connected to ground.", 4 S1 "Source Terminal 1. Can be an input or an output.", 5 S2 "Source Terminal 2. Can be an input or an output.", 6 S3 "Source Terminal 3. Can be an input or an output.", 7 S4 "Source Terminal 4. Can be an input or an output.", 8 D "Drain Terminal. Can be an input or an output.", 9 S8 "Source Terminal 8. Can be an input or an output.", 10 S7 "Source Terminal 7. Can be an input or an output.", 11 S6 "Source Terminal 6. Can be an input or an output.", 12 S5 "Source Terminal 5. Can be an input or an output.", 13 VDD (power) "Most Positive Power Supply Potential.", 14 GND (power) "Ground (0 V) Reference.", 15 A2 (in) "Logic Control Input.", 16 A1 (in) "Logic Control Input."

## ADG508AKN
designator U?
CMOS 8-Channel Analog Multiplexer, 280 Ohm / 500 Ohm Ron, 16-pin DIP (N-16), Tube; Manufacturer: Analog Devices; PartNumber: ADG508AKN; Max Analog Signal Range: Vss to Vdd; Ron (ohms): 280; t transition (s): 200n; DatasheetVersion: Rev. D; PackageVersion: 070706-A, 07/2006; PackageReference: N-16; PackageDescription: 16-Pin Plastic Dual In-Line Package, Row spacing 7.62 mm, Pitch 2.54 mm; Supplier 1: Digi-Key; Supplier Part Number 1: ADG508AKN-ND; Supplier 2: Mouser; Supplier Part Number 2: 584-ADG508AKN; Packing: Tube; Mounting Technology: Through Hole; Code_JEDEC: MS-001; ComponentLink1Description: Manufacturer URL; ComponentLink1URL: http://www.analog.com/en/index.html; ComponentLink2Description: Datasheet; ComponentLink2URL: http://www.analog.com/static/imported-files/data_sheets/ADG508A_509A.pdf; ComponentLink3Description: Package Specification; ComponentLink3URL: http://www.analog.com/static/imported-files/packages/44768431550332N_16.pdf
footprint ADI-N-16 (DIP, 16-Leads, Body 20.07x6.6mm, Pitch 2.54mm)
pins: 1 A0 (in) "Logic Control Input.", 2 EN (in) "Active High Digital Input. When low, the device is disabled and all switches are off. When high, Ax logic inputs determine on switches.", 3 VSS (power) "Most Negative Power Supply Potential in Dual Supplies. In single-supply applications, it can be connected to ground.", 4 S1 "Source Terminal 1. Can be an input or an output.", 5 S2 "Source Terminal 2. Can be an input or an output.", 6 S3 "Source Terminal 3. Can be an input or an output.", 7 S4 "Source Terminal 4. Can be an input or an output.", 8 D "Drain Terminal. Can be an input or an output.", 9 S8 "Source Terminal 8. Can be an input or an output.", 10 S7 "Source Terminal 7. Can be an input or an output.", 11 S6 "Source Terminal 6. Can be an input or an output.", 12 S5 "Source Terminal 5. Can be an input or an output.", 13 VDD (power) "Most Positive Power Supply Potential.", 14 GND (power) "Ground (0 V) Reference.", 15 A2 (in) "Logic Control Input.", 16 A1 (in) "Logic Control Input."

## ADG508AKNZ
designator U?
CMOS 8-Channel Analog Multiplexer, 280 Ohm / 500 Ohm Ron, 16-pin DIP (N-16), Tube; Manufacturer: Analog Devices; PartNumber: ADG508AKNZ; Max Analog Signal Range: Vss to Vdd; Ron (ohms): 280; t transition (s): 200n; DatasheetVersion: Rev. D; PackageVersion: 070706-A, 07/2006; PackageReference: N-16; PackageDescription: 16-Pin Plastic Dual In-Line Package, Row spacing 7.62 mm, Pitch 2.54 mm; Supplier 1: Digi-Key; Supplier Part Number 1: ADG508AKNZ-ND; Supplier 2: Farnell; Supplier Part Number 2: 9604979; Supplier 3: Newark; Supplier Part Number 3: 59K1360; Supplier 4: Mouser; Supplier Part Number 4: 584-ADG508AKNZ; Packing: Tube; Mounting Technology: Through Hole; Code_JEDEC: MS-001; ComponentLink1Description: Manufacturer URL; ComponentLink1URL: http://www.analog.com/en/index.html; ComponentLink2Description: Datasheet; ComponentLink2URL: http://www.analog.com/static/imported-files/data_sheets/ADG508A_509A.pdf; ComponentLink3Description: Package Specification; ComponentLink3URL: http://www.analog.com/static/imported-files/packages/44768431550332N_16.pdf
footprint ADI-N-16 (DIP, 16-Leads, Body 20.07x6.6mm, Pitch 2.54mm)
pins: 1 A0 (in) "Logic Control Input.", 2 EN (in) "Active High Digital Input. When low, the device is disabled and all switches are off. When high, Ax logic inputs determine on switches.", 3 VSS (power) "Most Negative Power Supply Potential in Dual Supplies. In single-supply applications, it can be connected to ground.", 4 S1 "Source Terminal 1. Can be an input or an output.", 5 S2 "Source Terminal 2. Can be an input or an output.", 6 S3 "Source Terminal 3. Can be an input or an output.", 7 S4 "Source Terminal 4. Can be an input or an output.", 8 D "Drain Terminal. Can be an input or an output.", 9 S8 "Source Terminal 8. Can be an input or an output.", 10 S7 "Source Terminal 7. Can be an input or an output.", 11 S6 "Source Terminal 6. Can be an input or an output.", 12 S5 "Source Terminal 5. Can be an input or an output.", 13 VDD (power) "Most Positive Power Supply Potential.", 14 GND (power) "Ground (0 V) Reference.", 15 A2 (in) "Logic Control Input.", 16 A1 (in) "Logic Control Input."

## ADG508AKP
designator U?
CMOS 8-Channel Analog Multiplexer, 280 Ohm / 500 Ohm Ron, 20-pin PLCC (P-20A), Tube; Manufacturer: Analog Devices; PartNumber: ADG508AKP; Max Analog Signal Range: Vss to Vdd; Ron (ohms): 280; t transition (s): 200n; DatasheetVersion: Rev. D; PackageVersion: Nov-02; PackageReference: P-20A; PackageDescription: 20-Pin Plastic Leaded Chip Carrier, Body 8.97 x 8.97 mm, Pitch 1.27 mm; Supplier 1: Digi-Key; Supplier Part Number 1: ADG508AKP-ND; Supplier 2: Newark; Supplier Part Number 2: 05F6219; Supplier 3: Mouser; Supplier Part Number 3: 584-ADG508AKP; Packing: Tube; Mounting Technology: Surface Mount; Code_JEDEC: MO-047AA; ComponentLink1Description: Manufacturer URL; ComponentLink1URL: http://www.analog.com/en/index.html; ComponentLink2Description: Datasheet; ComponentLink2URL: http://www.analog.com/static/imported-files/data_sheets/ADG508A_509A.pdf; ComponentLink3Description: Package Specification; ComponentLink3URL: http://www.analog.com/static/imported-files/packages/3121431516544404277643669223804694P20A.pdf
footprint ADI-P-20A_N (PLCC, 20-Leads, Body 8.965x8.965mm, Pitch 1.27mm, IPC Medium Density)
footprint ADI-P-20A_L (PLCC, 20-Leads, Body 8.965x8.965mm, Pitch 1.27mm, IPC High Density)
footprint ADI-P-20A_M (PLCC, 20-Leads, Body 8.965x8.965mm, Pitch 1.27mm, IPC Low Density)
pins: 1 NC "No Connect.", 2 A0 (in) "Logic Control Input.", 3 EN (in) "Active High Digital Input. When low, the device is disabled and all switches are off. When high, Ax logic inputs determine on switches.", 4 VSS (power) "Most Negative Power Supply Potential in Dual Supplies. In single-supply applications, it can be connected to ground.", 5 S1 "Source Terminal 1. Can be an input or an output.", 6 NC "No Connect.", 7 S2 "Source Terminal 2. Can be an input or an output.", 8 S3 "Source Terminal 3. Can be an input or an output.", 9 S4 "Source Terminal 4. Can be an input or an output.", 10 D "Drain Terminal. Can be an input or an output.", 11 NC "No Connect.", 12 S8 "Source Terminal 8. Can be an input or an output.", 13 S7 "Source Terminal 7. Can be an input or an output.", 14 S6 "Source Terminal 6. Can be an input or an output.", 15 S5 "Source Terminal 5. Can be an input or an output.", 16 NC "No Connect.", 17 VDD (power) "Most Positive Power Supply Potential.", 18 GND (power) "Ground (0 V) Reference.", 19 A2 (in) "Logic Control Input.", 20 A1 (in) "Logic Control Input."

## ADG508AKPZ
designator U?
CMOS 8-Channel Analog Multiplexer, 280 Ohm / 500 Ohm Ron, 20-pin PLCC (P-20A), Tube; Manufacturer: Analog Devices; PartNumber: ADG508AKPZ; Max Analog Signal Range: Vss to Vdd; Ron (ohms): 280; t transition (s): 200n; DatasheetVersion: Rev. D; PackageVersion: Nov-02; PackageReference: P-20A; PackageDescription: 20-Pin Plastic Leaded Chip Carrier, Body 8.97 x 8.97 mm, Pitch 1.27 mm; Supplier 1: Digi-Key; Supplier Part Number 1: ADG508AKPZ-ND; Supplier 2: Mouser; Supplier Part Number 2: 584-ADG508AKPZ; Packing: Tube; Mounting Technology: Surface Mount; Code_JEDEC: MO-047AA; ComponentLink1Description: Manufacturer URL; ComponentLink1URL: http://www.analog.com/en/index.html; ComponentLink2Description: Datasheet; ComponentLink2URL: http://www.analog.com/static/imported-files/data_sheets/ADG508A_509A.pdf; ComponentLink3Description: Package Specification; ComponentLink3URL: http://www.analog.com/static/imported-files/packages/3121431516544404277643669223804694P20A.pdf
footprint ADI-P-20A_N (PLCC, 20-Leads, Body 8.965x8.965mm, Pitch 1.27mm, IPC Medium Density)
footprint ADI-P-20A_L (PLCC, 20-Leads, Body 8.965x8.965mm, Pitch 1.27mm, IPC High Density)
footprint ADI-P-20A_M (PLCC, 20-Leads, Body 8.965x8.965mm, Pitch 1.27mm, IPC Low Density)
pins: 1 NC "No Connect.", 2 A0 (in) "Logic Control Input.", 3 EN (in) "Active High Digital Input. When low, the device is disabled and all switches are off. When high, Ax logic inputs determine on switches.", 4 VSS (power) "Most Negative Power Supply Potential in Dual Supplies. In single-supply applications, it can be connected to ground.", 5 S1 "Source Terminal 1. Can be an input or an output.", 6 NC "No Connect.", 7 S2 "Source Terminal 2. Can be an input or an output.", 8 S3 "Source Terminal 3. Can be an input or an output.", 9 S4 "Source Terminal 4. Can be an input or an output.", 10 D "Drain Terminal. Can be an input or an output.", 11 NC "No Connect.", 12 S8 "Source Terminal 8. Can be an input or an output.", 13 S7 "Source Terminal 7. Can be an input or an output.", 14 S6 "Source Terminal 6. Can be an input or an output.", 15 S5 "Source Terminal 5. Can be an input or an output.", 16 NC "No Connect.", 17 VDD (power) "Most Positive Power Supply Potential.", 18 GND (power) "Ground (0 V) Reference.", 19 A2 (in) "Logic Control Input.", 20 A1 (in) "Logic Control Input."

## ADG508AKPZ-REEL
designator U?
CMOS 8-Channel Analog Multiplexer, 280 Ohm / 500 Ohm Ron, 20-pin PLCC (P-20A), Reel; Manufacturer: Analog Devices; PartNumber: ADG508AKPZ-REEL; Max Analog Signal Range: Vss to Vdd; Ron (ohms): 280; t transition (s): 200n; DatasheetVersion: Rev. D; PackageVersion: Nov-02; PackageReference: P-20A; PackageDescription: 20-Pin Plastic Leaded Chip Carrier, Body 8.97 x 8.97 mm, Pitch 1.27 mm; Supplier 1: Digi-Key; Supplier Part Number 1: ADG508AKPZ-REEL-ND; Supplier 2: Mouser; Supplier Part Number 2: 584-ADG508AKPZ-R; Packing: Reel; Mounting Technology: Surface Mount; Code_JEDEC: MO-047AA; ComponentLink1Description: Manufacturer URL; ComponentLink1URL: http://www.analog.com/en/index.html; ComponentLink2Description: Datasheet; ComponentLink2URL: http://www.analog.com/static/imported-files/data_sheets/ADG508A_509A.pdf; ComponentLink3Description: Package Specification; ComponentLink3URL: http://www.analog.com/static/imported-files/packages/3121431516544404277643669223804694P20A.pdf
footprint ADI-P-20A_N (PLCC, 20-Leads, Body 8.965x8.965mm, Pitch 1.27mm, IPC Medium Density)
footprint ADI-P-20A_L (PLCC, 20-Leads, Body 8.965x8.965mm, Pitch 1.27mm, IPC High Density)
footprint ADI-P-20A_M (PLCC, 20-Leads, Body 8.965x8.965mm, Pitch 1.27mm, IPC Low Density)
pins: 1 NC "No Connect.", 2 A0 (in) "Logic Control Input.", 3 EN (in) "Active High Digital Input. When low, the device is disabled and all switches are off. When high, Ax logic inputs determine on switches.", 4 VSS (power) "Most Negative Power Supply Potential in Dual Supplies. In single-supply applications, it can be connected to ground.", 5 S1 "Source Terminal 1. Can be an input or an output.", 6 NC "No Connect.", 7 S2 "Source Terminal 2. Can be an input or an output.", 8 S3 "Source Terminal 3. Can be an input or an output.", 9 S4 "Source Terminal 4. Can be an input or an output.", 10 D "Drain Terminal. Can be an input or an output.", 11 NC "No Connect.", 12 S8 "Source Terminal 8. Can be an input or an output.", 13 S7 "Source Terminal 7. Can be an input or an output.", 14 S6 "Source Terminal 6. Can be an input or an output.", 15 S5 "Source Terminal 5. Can be an input or an output.", 16 NC "No Connect.", 17 VDD (power) "Most Positive Power Supply Potential.", 18 GND (power) "Ground (0 V) Reference.", 19 A2 (in) "Logic Control Input.", 20 A1 (in) "Logic Control Input."

## ADG508AKR
designator U?
CMOS 8-Channel Analog Multiplexer, 280 Ohm / 500 Ohm Ron, 16-pin SOIC (R-16), Tube; Manufacturer: Analog Devices; PartNumber: ADG508AKR; Max Analog Signal Range: Vss to Vdd; Ron (ohms): 280; t transition (s): 200n; DatasheetVersion: Rev. D; PackageVersion: 060606-A, 06/2006; PackageReference: R-16; PackageDescription: 16-Pin Standard Small Outline Package, Body 9.9 x 3.9 mm, Pitch 1.27 mm; Supplier 1: Digi-Key; Supplier Part Number 1: ADG508AKR-ND; Supplier 2: Newark; Supplier Part Number 2: 05F6220; Supplier 3: Mouser; Supplier Part Number 3: 584-ADG508AKR; Packing: Tube; Mounting Technology: Surface Mount; Code_JEDEC: MS-012-AC; ComponentLink1Description: Manufacturer URL; ComponentLink1URL: http://www.analog.com/en/index.html; ComponentLink2Description: Datasheet; ComponentLink2URL: http://www.analog.com/static/imported-files/data_sheets/ADG508A_509A.pdf; ComponentLink3Description: Package Specification; ComponentLink3URL: http://www.analog.com/static/imported-files/packages/PKG_PDF/SOIC_Narrow%20(R)/R_16.pdf
footprint ADI-R-16_N (SOIC, 16-Leads, Body 9.9x3.9mm, Pitch 1.27mm, IPC Medium Density)
footprint ADI-R-16_L (SOIC, 16-Leads, Body 9.9x3.9mm, Pitch 1.27mm, IPC High Density)
footprint ADI-R-16_M (SOIC, 16-Leads, Body 9.9x3.9mm, Pitch 1.27mm, IPC Low Density)
pins: 1 A0 (in), 2 EN (in), 3 VSS (power), 4 S1, 5 S2, 6 S3, 7 S4, 8 D, 9 S8, 10 S7, 11 S6, 12 S5, 13 VDD (power), 14 GND (power), 15 A2 (in), 16 A1 (in)